# Altium footprint library SnapEDApcb.PcbLib: 1 footprints
Each footprint in its own frame and in the unit in brackets; x right, y up, seen from the top. Pads: shape width x height; smd on the part's side, far side on the other; paste and mask are expansions set on the pad; w line width, h text height; cw(c..) or ccw(c..) is an arc to the next point about the centre after c.
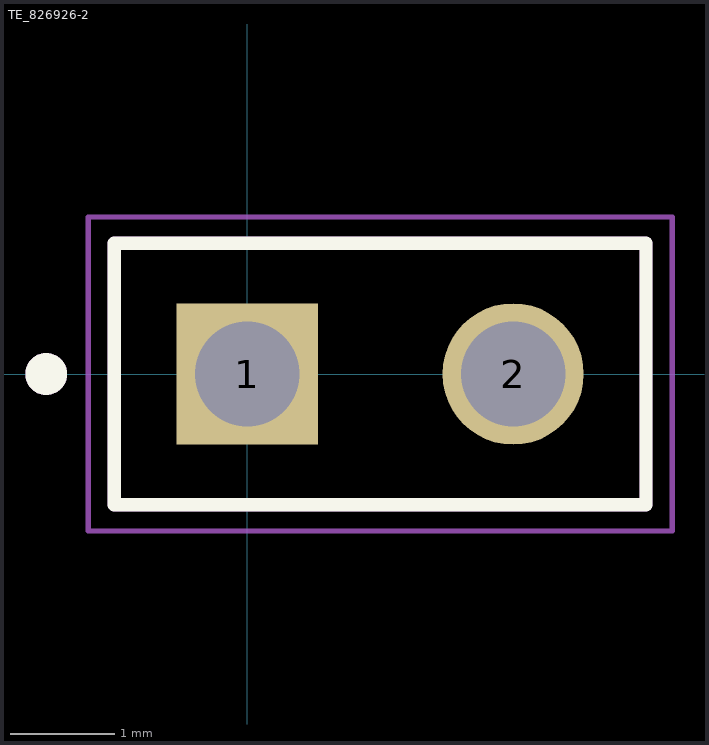
[diagram p0: the footprint, top view; thin cyan lines are the x and y axes]

## TE_826926-2 [mm]
pads (2):
  rect 1.35x1.35 hole 1: 1(0,0)
  round 1.35 hole 1: 2(2.54,0)
Top Overlay:
  circle w0.2: c-1.92,0 r0.1
  lines w0.127: -1.27,-1.25 3.81,-1.25 3.81,1.25 -1.27,1.25 -1.27,-1.25
Mechanical 13:
  circle w0.2: c-1.92,0 r0.1
  lines w0.127: -1.27,-1.25 3.81,-1.25 ; -1.27,-1.25 3.81,-1.25 ; -1.27,-1.25 -1.27,1.25 3.81,1.25 3.81,-1.25
Mechanical 15:
  lines w0.05: -1.52,-1.5 4.06,-1.5 4.06,1.5 -1.52,1.5 -1.52,-1.5